# Altium footprint library XHCL.PcbLib: 31 footprints (part 1 of 2)
Each footprint in its own frame and in the unit in brackets; x right, y up, seen from the top. Pads: shape width x height; smd on the part's side, far side on the other; paste and mask are expansions set on the pad; w line width, h text height; cw(c..) or ccw(c..) is an arc to the next point about the centre after c.
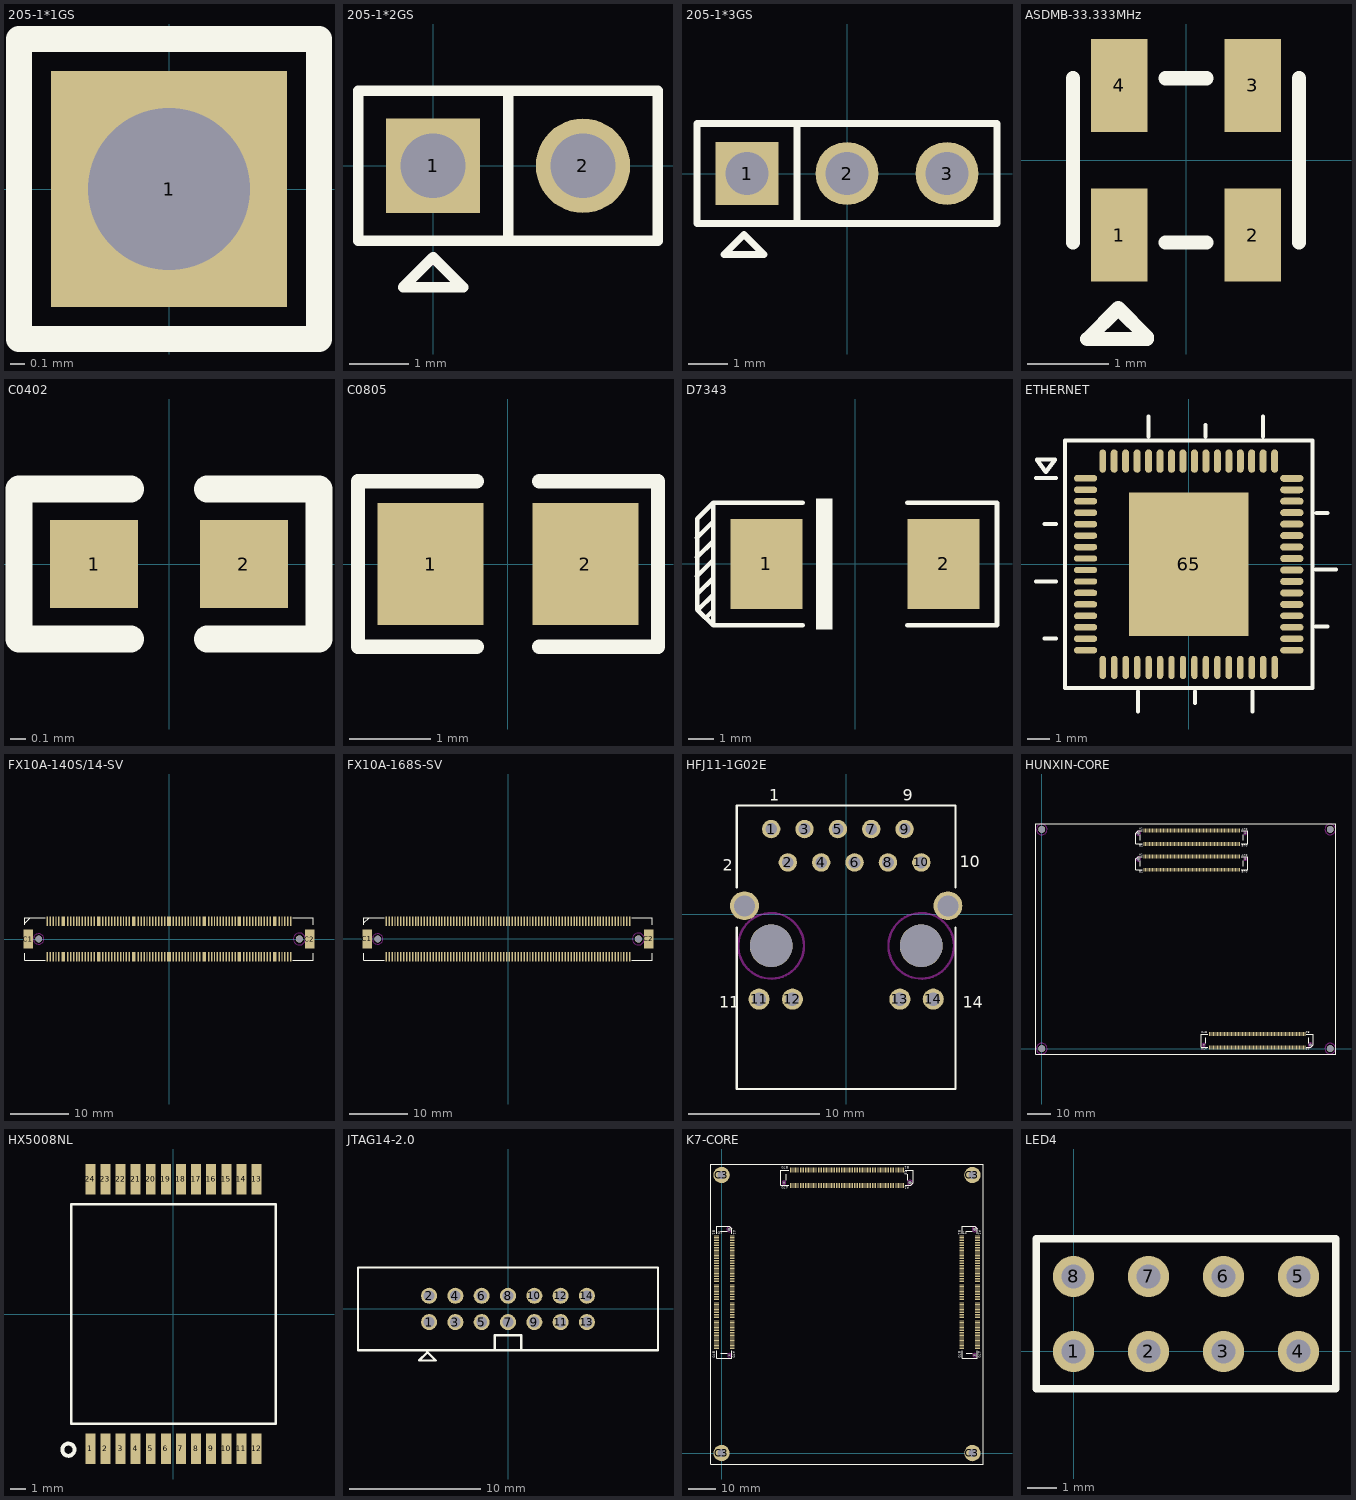
[diagram p0: the footprints below, top view; thin cyan lines are the x and y axes]

## 205-1*1GS [mm]
height 6
pads (1):
  rect 1.6x1.6 hole 1.1: 1(0,0)
Top Overlay:
  lines w0.178: -1.016,-1.016 1.016,-1.016 1.016,1.016 -1.016,1.016 -1.016,-1.016

## 205-1*2GS [mm]
height 6
pads (2):
  rect 1.6x1.6 hole 1.1: 1(0,0)
  round 1.6 hole 1.1: 2(2.54,0)
Top Overlay:
  lines w0.178: 1.27,-1.27 1.27,1.27 ; -1.27,-1.27 3.81,-1.27 3.81,1.27 -1.27,1.27 -1.27,-1.27 ; -0.508,-2.057 0,-1.549 0.508,-2.057 -0.508,-2.057

## 205-1*3GS [mm]
height 6
pads (3):
  rect 1.6x1.6 hole 1.1: 1(-2.54,0)
  round 1.6 hole 1.1: 2(0,0) 3(2.54,0)
Top Overlay:
  lines w0.178: -1.27,-1.27 -1.27,1.27 ; -3.81,-1.27 3.81,-1.27 3.81,1.27 -3.81,1.27 -3.81,-1.27 ; -3.124,-2.057 -2.616,-1.549 -2.108,-2.057 -3.124,-2.057

## ASDMB-33.333MHz [mm]
height 1.1
pads (4):
  rect 0.7x1.15 smd: 1(-0.825,-0.925) 2(0.825,-0.925) 3(0.825,0.925) 4(-0.825,0.925)
Top Overlay:
  lines w0.178: -1.397,-1.016 -1.397,1.016 ; -0.254,-1.016 0.254,-1.016 ; -0.254,1.016 0.254,1.016 ; 1.397,-1.016 1.397,1.016 ; -1.219,-2.21 -0.483,-2.21 -0.483,-2.184 -0.838,-1.829 -1.219,-2.21

## C0402 [mil]
pads (2):
  rect 23x23 smd: 1(-19.68,0) 2(19.68,0)
Top Overlay:
  lines w7: -10,-19.68 -39.37,-19.68 -39.37,19.68 -10,19.68 ; 10,-19.68 39.37,-19.68 39.37,19.68 10,19.68

## C0805 [mm]
height 6
pads (2):
  rect 1.3x1.5 smd: 1(-0.95,0) 2(0.95,0)
Top Overlay:
  lines w0.178: -0.381,-1.019 -1.841,-1.019 -1.841,1.019 -0.381,1.019 ; 0.381,-1.019 1.842,-1.019 1.842,1.019 0.381,1.019

## D7343 [mm]
height 1.1
pads (2):
  rect 2.8x3.5 smd: 1(-3.45,0) 2(3.45,0)
Top Overlay:
  rectangle: -1.522,-2.542 -0.887,2.538
  lines w0.178: -6.151,-0.474 -5.524,0.152 ; -6.151,0.263 -5.524,0.889 ; -6.151,1.025 -5.524,1.651 ; -6.092,-1.761 -5.524,-1.194 ; -6.092,-1.126 -5.524,-0.559 ; -5.817,-2.108 -5.524,-1.829 ; -2.032,-2.388 -5.524,-2.388 ; -2.032,2.388 -5.524,2.388 ; 2.032,-2.388 5.524,-2.388 5.524,2.388 2.032,2.388 ; -5.524,-2.388 -6.147,-1.778 -6.147,1.753 -5.524,2.388 ; -5.524,-2.388 -5.524,2.388

## ETHERNET [mm]
height 1.1
pads (65):
  oval 1.016x0.279 smd mask+0.051: 1(-4.5,3.75) 2(-4.5,3.25) 3(-4.5,2.75) 4(-4.5,2.25) 5(-4.5,1.75) 6(-4.5,1.25) 7(-4.5,0.75) 8(-4.5,0.25) 9(-4.5,-0.25) 10(-4.5,-0.75) 11(-4.5,-1.25) 12(-4.5,-1.75) 13(-4.5,-2.25) 14(-4.5,-2.75) 15(-4.5,-3.25) 16(-4.5,-3.75) 33(4.5,-3.75) 34(4.5,-3.25) 35(4.5,-2.75) 36(4.5,-2.25)
  oval 0.279x1.016 smd mask+0.051: 17(-3.75,-4.5) 18(-3.25,-4.5) 19(-2.75,-4.5) 20(-2.25,-4.5) 21(-1.75,-4.5) 22(-1.25,-4.5) 23(-0.75,-4.5) 24(-0.25,-4.5) 25(0.25,-4.5) 26(0.75,-4.5) 27(1.25,-4.5) 28(1.75,-4.5) 29(2.25,-4.5) 30(2.75,-4.5) 31(3.25,-4.5) 32(3.75,-4.5) 64(-3.75,4.5)
  oval 1.016x0.305 smd mask+0.051: 37(4.5,-1.75) 38(4.5,-1.25) 39(4.5,-0.75) 40(4.5,-0.25) 41(4.5,0.25) 42(4.5,0.75) 43(4.5,1.25) 44(4.5,1.75) 45(4.5,2.25) 46(4.5,2.75) 47(4.5,3.25) 48(4.5,3.75)
  oval 0.305x1.016 smd mask+0.051: 49(3.75,4.5) 50(3.25,4.5) 51(2.75,4.5) 52(2.25,4.5) 53(1.75,4.5) 54(1.25,4.5) 55(0.75,4.5) 56(0.25,4.5) 57(-0.25,4.5) 58(-0.75,4.5) 59(-1.25,4.5) 60(-1.75,4.5) 61(-2.25,4.5) 62(-2.75,4.5) 63(-3.25,4.5)
  rect 5.21x6.25 smd: 65(0,0)
Top Overlay:
  lines w0.178: -6.662,-0.743 -5.798,-0.743 ; -6.662,3.757 -5.798,3.757 ; -6.292,-3.243 -5.798,-3.243 ; -6.292,1.757 -5.798,1.757 ; -2.217,-6.414 -2.217,-5.551 ; -1.76,5.575 -1.76,6.438 ; 0.283,-6.044 0.283,-5.551 ; 0.74,5.575 0.74,6.068 ; 2.783,-6.414 2.783,-5.551 ; 3.24,5.575 3.24,6.438 ; 5.563,-2.718 6.056,-2.718 ; 5.563,-0.229 6.426,-0.229 ; 5.566,2.243 6.06,2.243 ; -6.625,4.571 -6.233,4.025 -5.825,4.571 -6.625,4.571 ; -5.4,-5.4 5.4,-5.4 5.4,5.4 -5.4,5.4 -5.4,-5.4

## FX10A-140S/14-SV [mm] "FX10A-140S_14-SV"
pads (158):
  rect 0.25x1.6 smd mask+0.051: A1(-20.75,-3.05) A2(-20.25,-3.05) A3(-19.75,-3.05) A4(-19.25,-3.05) A5(-18.75,-3.05) A7(-17.25,-3.05) A8(-16.75,-3.05) A9(-16.25,-3.05) A10(-15.75,-3.05) A11(-15.25,-3.05) A12(-14.75,-3.05) A13(-14.25,-3.05) A14(-13.75,-3.05) A15(-13.25,-3.05) A16(-12.75,-3.05) A18(-11.25,-3.05) A19(-10.75,-3.05) A20(-10.25,-3.05) A21(-9.75,-3.05) A22(-9.25,-3.05) A23(-8.75,-3.05) A24(-8.25,-3.05) A25(-7.75,-3.05) A26(-7.25,-3.05) A27(-6.75,-3.05) A29(-5.25,-3.05) A30(-4.75,-3.05) A31(-4.25,-3.05) A32(-3.75,-3.05) A33(-3.25,-3.05) A34(-2.75,-3.05) A35(-2.25,-3.05) A36(-1.75,-3.05) A37(-1.25,-3.05) A38(-0.75,-3.05) A40(0.75,-3.05) A41(1.25,-3.05) A42(1.75,-3.05) A43(2.25,-3.05) A44(2.75,-3.05) A45(3.25,-3.05) A46(3.75,-3.05) A47(4.25,-3.05) A48(4.75,-3.05) A49(5.25,-3.05) A51(6.75,-3.05) A52(7.25,-3.05) A53(7.75,-3.05) A54(8.25,-3.05) A55(8.75,-3.05) A56(9.25,-3.05) A57(9.75,-3.05) A58(10.25,-3.05) A59(10.75,-3.05) A60(11.25,-3.05) A62(12.75,-3.05) A63(13.25,-3.05) A64(13.75,-3.05) A65(14.25,-3.05) A66(14.75,-3.05) A67(15.25,-3.05) A68(15.75,-3.05) A69(16.25,-3.05) A70(16.75,-3.05) A71(17.25,-3.05) A73(18.75,-3.05) A74(19.25,-3.05) A75(19.75,-3.05) A76(20.25,-3.05) A77(20.75,-3.05) B1(-20.75,3.05) B2(-20.25,3.05) B3(-19.75,3.05) B4(-19.25,3.05) B5(-18.75,3.05) B7(-17.25,3.05) B8(-16.75,3.05) B9(-16.25,3.05) B10(-15.75,3.05) B11(-15.25,3.05) B12(-14.75,3.05) B13(-14.25,3.05) B14(-13.75,3.05) B15(-13.25,3.05) B16(-12.75,3.05) B18(-11.25,3.05) B19(-10.75,3.05) B20(-10.25,3.05) B21(-9.75,3.05) B22(-9.25,3.05) B23(-8.75,3.05) B24(-8.25,3.05) B25(-7.75,3.05) B26(-7.25,3.05) B27(-6.75,3.05) B29(-5.25,3.05) B30(-4.75,3.05) B31(-4.25,3.05) B32(-3.75,3.05) B33(-3.25,3.05) B34(-2.75,3.05) B35(-2.25,3.05) B36(-1.75,3.05) B37(-1.25,3.05) B38(-0.75,3.05) B40(0.75,3.05) B41(1.25,3.05) B42(1.75,3.05) B43(2.25,3.05) B44(2.75,3.05) B45(3.25,3.05) B46(3.75,3.05) B47(4.25,3.05) B48(4.75,3.05) B49(5.25,3.05) B51(6.75,3.05) B52(7.25,3.05) B53(7.75,3.05) B54(8.25,3.05) B55(8.75,3.05) B56(9.25,3.05) B57(9.75,3.05) B58(10.25,3.05) B59(10.75,3.05) B60(11.25,3.05) B62(12.75,3.05) B63(13.25,3.05) B64(13.75,3.05) B65(14.25,3.05) B66(14.75,3.05) B67(15.25,3.05) B68(15.75,3.05) B69(16.25,3.05) B70(16.75,3.05) B71(17.25,3.05) B73(18.75,3.05) B74(19.25,3.05) B75(19.75,3.05) B76(20.25,3.05) B77(20.75,3.05)
  rect 0.6x1.6 smd: A6(-18,-3.05) A17(-12,-3.05) A28(-6,-3.05) A39(0,-3.05) A50(6,-3.05) A61(12,-3.05) A72(18,-3.05) B6(-18,3.05) B17(-12,3.05) B28(-6,3.05) B39(0,3.05) B50(6,3.05) B61(12,3.05) B72(18,3.05)
  rect 1.6x3.2 smd: C1(-23.95,0) C2(23.95,0)
  round 1.118 hole 1.118 unplated: ""(-22.2,0)
  round 1.219 hole 1.219 unplated: ""(22.2,0)
Top Overlay:
  lines w0.1: -24.55,-2.45 -24.55,-3.65 -21.05,-3.65 ; -24.55,2.45 -24.55,3.65 -21.05,3.65 ; 21.05,-3.65 24.55,-3.65 24.55,-2.45 ; 21.05,3.65 24.55,3.65 24.55,2.45
  lines w0.15: -24.486,2.794 -23.724,3.556
Keep-Out Layer:
  circle w0.178: c-22.2,0 r0.889
  circle w0.178: c22.2,0 r1.016

## FX10A-168S-SV [mm] "FX10A-168S-SV"
pads (172):
  rect 0.25x1.6 smd mask+0.051: A1(-20.75,-3.05) A2(-20.25,-3.05) A3(-19.75,-3.05) A4(-19.25,-3.05) A5(-18.75,-3.05) A6(-18.25,-3.05) A7(-17.75,-3.05) A8(-17.25,-3.05) A9(-16.75,-3.05) A10(-16.25,-3.05) A11(-15.75,-3.05) A12(-15.25,-3.05) A13(-14.75,-3.05) A14(-14.25,-3.05) A15(-13.75,-3.05) A16(-13.25,-3.05) A17(-12.75,-3.05) A18(-12.25,-3.05) A19(-11.75,-3.05) A20(-11.25,-3.05) A21(-10.75,-3.05) A22(-10.25,-3.05) A23(-9.75,-3.05) A24(-9.25,-3.05) A25(-8.75,-3.05) A26(-8.25,-3.05) A27(-7.75,-3.05) A28(-7.25,-3.05) A29(-6.75,-3.05) A30(-6.25,-3.05) A31(-5.75,-3.05) A32(-5.25,-3.05) A33(-4.75,-3.05) A34(-4.25,-3.05) A35(-3.75,-3.05) A36(-3.25,-3.05) A37(-2.75,-3.05) A38(-2.25,-3.05) A39(-1.75,-3.05) A40(-1.25,-3.05) A41(-0.75,-3.05) A42(-0.25,-3.05) A43(0.25,-3.05) A44(0.75,-3.05) A45(1.25,-3.05) A46(1.75,-3.05) A47(2.25,-3.05) A48(2.75,-3.05) A49(3.25,-3.05) A50(3.75,-3.05) A51(4.25,-3.05) A52(4.75,-3.05) A53(5.25,-3.05) A54(5.75,-3.05) A55(6.25,-3.05) A56(6.75,-3.05) A57(7.25,-3.05) A58(7.75,-3.05) A59(8.25,-3.05) A60(8.75,-3.05) A61(9.25,-3.05) A62(9.75,-3.05) A63(10.25,-3.05) A64(10.75,-3.05) A65(11.25,-3.05) A66(11.75,-3.05) A67(12.25,-3.05) A68(12.75,-3.05) A69(13.25,-3.05) A70(13.75,-3.05) A71(14.25,-3.05) A72(14.75,-3.05) A73(15.25,-3.05) A74(15.75,-3.05) A75(16.25,-3.05) A76(16.75,-3.05) A77(17.25,-3.05) A78(17.75,-3.05) A79(18.25,-3.05) A80(18.75,-3.05) A81(19.25,-3.05) A82(19.75,-3.05) A83(20.25,-3.05) A84(20.75,-3.05) B1(-20.75,3.05) B2(-20.25,3.05) B3(-19.75,3.05) B4(-19.25,3.05) B5(-18.75,3.05) B6(-18.25,3.05) B7(-17.75,3.05) B8(-17.25,3.05) B9(-16.75,3.05) B10(-16.25,3.05) B11(-15.75,3.05) B12(-15.25,3.05) B13(-14.75,3.05) B14(-14.25,3.05) B15(-13.75,3.05) B16(-13.25,3.05) B17(-12.75,3.05) B18(-12.25,3.05) B19(-11.75,3.05) B20(-11.25,3.05) B21(-10.75,3.05) B22(-10.25,3.05) B23(-9.75,3.05) B24(-9.25,3.05) B25(-8.75,3.05) B26(-8.25,3.05) B27(-7.75,3.05) B28(-7.25,3.05) B29(-6.75,3.05) B30(-6.25,3.05) B31(-5.75,3.05) B32(-5.25,3.05) B33(-4.75,3.05) B34(-4.25,3.05) B35(-3.75,3.05) B36(-3.25,3.05) B37(-2.75,3.05) B38(-2.25,3.05) B39(-1.75,3.05) B40(-1.25,3.05) B41(-0.75,3.05) B42(-0.25,3.05) B43(0.25,3.05) B44(0.75,3.05) B45(1.25,3.05) B46(1.75,3.05) B47(2.25,3.05) B48(2.75,3.05) B49(3.25,3.05) B50(3.75,3.05) B51(4.25,3.05) B52(4.75,3.05) B53(5.25,3.05) B54(5.75,3.05) B55(6.25,3.05) B56(6.75,3.05) B57(7.25,3.05) B58(7.75,3.05) B59(8.25,3.05) B60(8.75,3.05) B61(9.25,3.05) B62(9.75,3.05) B63(10.25,3.05) B64(10.75,3.05) B65(11.25,3.05) B66(11.75,3.05) B67(12.25,3.05) B68(12.75,3.05) B69(13.25,3.05) B70(13.75,3.05) B71(14.25,3.05) B72(14.75,3.05) B73(15.25,3.05) B74(15.75,3.05) B75(16.25,3.05) B76(16.75,3.05) B77(17.25,3.05) B78(17.75,3.05) B79(18.25,3.05) B80(18.75,3.05) B81(19.25,3.05) B82(19.75,3.05) B83(20.25,3.05) B84(20.75,3.05)
  rect 1.6x3.2 smd: C1(-23.95,0) C2(23.95,0)
  round 1.118 hole 1.118 unplated: ""(-22.2,0)
  round 1.219 hole 1.219 unplated: ""(22.2,0)
Top Overlay:
  lines w0.1: -24.55,-2.45 -24.55,-3.65 -21.05,-3.65 ; -24.55,2.45 -24.55,3.65 -21.05,3.65 ; -24.55,2.75 -23.65,3.65 ; 21.05,-3.65 24.55,-3.65 24.55,-2.45 ; 21.05,3.65 24.55,3.65 24.55,2.45
Keep-Out Layer:
  circle w0.178: c-22.2,0 r0.889
  circle w0.178: c22.2,0 r1.016

## HFJ11-1G02E [mm]
height 6
pads (18):
  round 1.4 hole 0.89: 1(-5.71,6.475) 2(-4.44,3.935) 3(-3.17,6.475) 4(-1.9,3.935) 5(-0.63,6.475) 6(0.64,3.935) 7(1.91,6.475) 8(3.18,3.935) 9(4.45,6.475) 10(5.72,3.935)
  round 1.6 hole 1.02: 11(-6.63,-6.475) 12(-4.09,-6.475) 13(4.09,-6.475) 14(6.63,-6.475)
  round 2.2 hole 1.6: ""(-7.745,0.635) ""(7.745,0.635)
  round 3.25 hole 3.25 unplated: ""(-5.715,-2.415) ""(5.715,-2.415)
Top Overlay:
  lines w0.178: -8.33,-1.016 -8.33,-13.315 8.33,-13.315 8.33,-1.016 ; -8.33,2.032 -8.33,8.275 8.33,8.275 8.33,2.032
  text "1" at -5.842,8.636 h0.89
  text "9" at 4.318,8.636 h0.89
  text "10" at 8.636,3.556 h0.89
  text "2" at -9.398,3.302 h0.89
  text "14" at 8.89,-7.112 h0.89
  text "11" at -9.652,-7.112 h0.89
Keep-Out Layer:
  circle w0.178: c5.715,-2.415 r2.5
  circle w0.178: c-5.715,-2.415 r2.5

## HUNXIN-CORE [mm] "TT202101191536"
height 6
pads (430):
  rect 0.35x1.7 smd mask+0.051: A1_1(114.01,0.55) A1_2(113.41,0.55) A1_3(112.81,0.55) A1_4(112.21,0.55) A1_5(111.61,0.55) A1_6(111.01,0.55) A1_7(110.41,0.55) A1_8(109.81,0.55) A1_9(109.21,0.55) A1_10(108.61,0.55) A1_11(108.01,0.55) A1_12(107.41,0.55) A1_13(106.81,0.55) A1_14(106.21,0.55) A1_15(105.61,0.55) A1_16(105.01,0.55) A1_17(104.41,0.55) A1_18(103.81,0.55) A1_19(103.21,0.55) A1_20(102.61,0.55) A1_21(102.01,0.55) A1_22(101.41,0.55) A1_23(100.81,0.55) A1_24(100.21,0.55) A1_25(99.61,0.55) A1_26(99.01,0.55) A1_27(98.41,0.55) A1_28(97.81,0.55) A1_29(97.21,0.55) A1_30(96.61,0.55) A1_31(96.01,0.55) A1_32(95.41,0.55) A1_33(94.81,0.55) A1_34(94.21,0.55) A1_35(93.61,0.55) A1_36(93.01,0.55) A1_37(92.41,0.55) A1_38(91.81,0.55) A1_39(91.21,0.55) A1_40(90.61,0.55) A1_41(90.01,0.55) A1_42(89.41,0.55) A1_43(88.81,0.55) A1_44(88.21,0.55) A1_45(87.61,0.55) A1_46(87.01,0.55) A1_47(86.41,0.55) A1_48(85.81,0.55) A1_49(85.21,0.55) A1_50(84.61,0.55) A1_51(84.01,0.55) A1_52(83.41,0.55) A1_53(82.81,0.55) A1_54(82.21,0.55) A1_55(81.61,0.55) A1_56(81.01,0.55) A1_57(80.41,0.55) A1_58(79.81,0.55) A1_59(79.21,0.55) A1_60(78.61,0.55) A1_61(78.01,0.55) A1_62(77.41,0.55) A1_63(76.81,0.55) A1_64(76.21,0.55) A1_65(75.61,0.55) A1_66(75.01,0.55) A1_67(74.41,0.55) A1_68(73.81,0.55) A1_69(73.21,0.55) A1_70(72.61,0.55) A2_1(44.306,83.221) A2_2(44.906,83.221) A2_3(45.506,83.221) A2_4(46.106,83.221) A2_5(46.706,83.221) A2_6(47.306,83.221) A2_7(47.906,83.221) A2_8(48.506,83.221) A2_9(49.106,83.221) A2_10(49.706,83.221) A2_11(50.306,83.221) A2_12(50.906,83.221) A2_13(51.506,83.221) A2_14(52.106,83.221) A2_15(52.706,83.221) A2_16(53.306,83.221) A2_17(53.906,83.221) A2_18(54.506,83.221) A2_19(55.106,83.221) A2_20(55.706,83.221) A2_21(56.306,83.221) A2_22(56.906,83.221) A2_23(57.506,83.221) A2_24(58.106,83.221) A2_25(58.706,83.221) A2_26(59.306,83.221) A2_27(59.906,83.221) A2_28(60.506,83.221) A2_29(61.106,83.221) A2_30(61.706,83.221) A2_31(62.306,83.221) A2_32(62.906,83.221) A2_33(63.506,83.221) A2_34(64.106,83.221) A2_35(64.706,83.221) A2_36(65.306,83.221) A2_37(65.906,83.221) A2_38(66.506,83.221) A2_39(67.106,83.221) A2_40(67.706,83.221) A2_41(68.306,83.221) A2_42(68.906,83.221) A2_43(69.506,83.221) A2_44(70.106,83.221) A2_45(70.706,83.221) A2_46(71.306,83.221) A2_47(71.906,83.221) A2_48(72.506,83.221) A2_49(73.106,83.221) A2_50(73.706,83.221) A2_51(74.306,83.221) A2_52(74.906,83.221) A2_53(75.506,83.221) A2_54(76.106,83.221) A2_55(76.706,83.221) A2_56(77.306,83.221) A2_57(77.906,83.221) A2_58(78.506,83.221) A2_59(79.106,83.221) A2_60(79.706,83.221) A2_61(80.306,83.221) A2_62(80.906,83.221) A2_63(81.506,83.221) A2_64(82.106,83.221) A2_65(82.706,83.221) A2_66(83.306,83.221) A2_67(83.906,83.221) A2_68(84.506,83.221) A2_69(85.106,83.221) A2_70(85.706,83.221) A3_1(44.306,94.45) A3_2(44.906,94.45) A3_3(45.506,94.45) A3_4(46.106,94.45) A3_5(46.706,94.45) A3_6(47.306,94.45) A3_7(47.906,94.45) A3_8(48.506,94.45) A3_9(49.106,94.45) A3_10(49.706,94.45) A3_11(50.306,94.45) A3_12(50.906,94.45) A3_13(51.506,94.45) A3_14(52.106,94.45) A3_15(52.706,94.45) A3_16(53.306,94.45) A3_17(53.906,94.45) A3_18(54.506,94.45) A3_19(55.106,94.45) A3_20(55.706,94.45) A3_21(56.306,94.45) A3_22(56.906,94.45) A3_23(57.506,94.45) A3_24(58.106,94.45) A3_25(58.706,94.45) A3_26(59.306,94.45) A3_27(59.906,94.45) A3_28(60.506,94.45) A3_29(61.106,94.45) A3_30(61.706,94.45) A3_31(62.306,94.45) A3_32(62.906,94.45) A3_33(63.506,94.45) A3_34(64.106,94.45) A3_35(64.706,94.45) A3_36(65.306,94.45) A3_37(65.906,94.45) A3_38(66.506,94.45) A3_39(67.106,94.45) A3_40(67.706,94.45) A3_41(68.306,94.45) A3_42(68.906,94.45) A3_43(69.506,94.45) A3_44(70.106,94.45) A3_45(70.706,94.45) A3_46(71.306,94.45) A3_47(71.906,94.45) A3_48(72.506,94.45) A3_49(73.106,94.45) A3_50(73.706,94.45) A3_51(74.306,94.45) A3_52(74.906,94.45) A3_53(75.506,94.45) A3_54(76.106,94.45) A3_55(76.706,94.45) A3_56(77.306,94.45) A3_57(77.906,94.45) A3_58(78.506,94.45) A3_59(79.106,94.45) A3_60(79.706,94.45) A3_61(80.306,94.45) A3_62(80.906,94.45) A3_63(81.506,94.45) A3_64(82.106,94.45) A3_65(82.706,94.45) A3_66(83.306,94.45) A3_67(83.906,94.45) A3_68(84.506,94.45) A3_69(85.106,94.45) A3_70(85.706,94.45) B1_1(114.01,6.25) B1_2(113.41,6.25) B1_3(112.81,6.25) B1_4(112.21,6.25) B1_5(111.61,6.25) B1_6(111.01,6.25) B1_7(110.41,6.25) B1_8(109.81,6.25) B1_9(109.21,6.25) B1_10(108.61,6.25) B1_11(108.01,6.25) B1_12(107.41,6.25) B1_13(106.81,6.25) B1_14(106.21,6.25) B1_15(105.61,6.25) B1_16(105.01,6.25) B1_17(104.41,6.25) B1_18(103.81,6.25) B1_19(103.21,6.25) B1_20(102.61,6.25) B1_21(102.01,6.25) B1_22(101.41,6.25) B1_23(100.81,6.25) B1_24(100.21,6.25) B1_25(99.61,6.25) B1_26(99.01,6.25) B1_27(98.41,6.25) B1_28(97.81,6.25) B1_29(97.21,6.25) B1_30(96.61,6.25) B1_31(96.01,6.25) B1_32(95.41,6.25) B1_33(94.81,6.25) B1_34(94.21,6.25) B1_35(93.61,6.25) B1_36(93.01,6.25) B1_37(92.41,6.25) B1_38(91.81,6.25) B1_39(91.21,6.25) B1_40(90.61,6.25) B1_41(90.01,6.25) B1_42(89.41,6.25) B1_43(88.81,6.25) B1_44(88.21,6.25) B1_45(87.61,6.25) B1_46(87.01,6.25) B1_47(86.41,6.25) B1_48(85.81,6.25) B1_49(85.21,6.25) B1_50(84.61,6.25) B1_51(84.01,6.25) B1_52(83.41,6.25) B1_53(82.81,6.25) B1_54(82.21,6.25) B1_55(81.61,6.25) B1_56(81.01,6.25) B1_57(80.41,6.25) B1_58(79.81,6.25) B1_59(79.21,6.25) B1_60(78.61,6.25) B1_61(78.01,6.25) B1_62(77.41,6.25) B1_63(76.81,6.25) B1_64(76.21,6.25) B1_65(75.61,6.25) B1_66(75.01,6.25) B1_67(74.41,6.25) B1_68(73.81,6.25) B1_69(73.21,6.25) B1_70(72.61,6.25) B2_1(44.306,77.521) B2_2(44.906,77.521) B2_3(45.506,77.521) B2_4(46.106,77.521) B2_5(46.706,77.521) B2_6(47.306,77.521) B2_7(47.906,77.521) B2_8(48.506,77.521) B2_9(49.106,77.521) B2_10(49.706,77.521) B2_11(50.306,77.521) B2_12(50.906,77.521) B2_13(51.506,77.521) B2_14(52.106,77.521) B2_15(52.706,77.521) B2_16(53.306,77.521) B2_17(53.906,77.521) B2_18(54.506,77.521) B2_19(55.106,77.521) B2_20(55.706,77.521) B2_21(56.306,77.521) B2_22(56.906,77.521) B2_23(57.506,77.521) B2_24(58.106,77.521) B2_25(58.706,77.521) B2_26(59.306,77.521) B2_27(59.906,77.521) B2_28(60.506,77.521) B2_29(61.106,77.521) B2_30(61.706,77.521) B2_31(62.306,77.521) B2_32(62.906,77.521) B2_33(63.506,77.521) B2_34(64.106,77.521) B2_35(64.706,77.521) B2_36(65.306,77.521) B2_37(65.906,77.521) B2_38(66.506,77.521) B2_39(67.106,77.521) B2_40(67.706,77.521) B2_41(68.306,77.521) B2_42(68.906,77.521) B2_43(69.506,77.521) B2_44(70.106,77.521) B2_45(70.706,77.521) B2_46(71.306,77.521) B2_47(71.906,77.521) B2_48(72.506,77.521) B2_49(73.106,77.521) B2_50(73.706,77.521) B2_51(74.306,77.521) B2_52(74.906,77.521) B2_53(75.506,77.521) B2_54(76.106,77.521) B2_55(76.706,77.521) B2_56(77.306,77.521) B2_57(77.906,77.521) B2_58(78.506,77.521) B2_59(79.106,77.521) B2_60(79.706,77.521) B2_61(80.306,77.521) B2_62(80.906,77.521) B2_63(81.506,77.521) B2_64(82.106,77.521) B2_65(82.706,77.521) B2_66(83.306,77.521) B2_67(83.906,77.521) B2_68(84.506,77.521) B2_69(85.106,77.521) B2_70(85.706,77.521) B3_1(44.306,88.75) B3_2(44.906,88.75) B3_3(45.506,88.75) B3_4(46.106,88.75) B3_5(46.706,88.75) B3_6(47.306,88.75) B3_7(47.906,88.75) B3_8(48.506,88.75) B3_9(49.106,88.75) B3_10(49.706,88.75) B3_11(50.306,88.75) B3_12(50.906,88.75) B3_13(51.506,88.75) B3_14(52.106,88.75) B3_15(52.706,88.75) B3_16(53.306,88.75) B3_17(53.906,88.75) B3_18(54.506,88.75) B3_19(55.106,88.75) B3_20(55.706,88.75) B3_21(56.306,88.75) B3_22(56.906,88.75) B3_23(57.506,88.75) B3_24(58.106,88.75) B3_25(58.706,88.75) B3_26(59.306,88.75) B3_27(59.906,88.75) B3_28(60.506,88.75) B3_29(61.106,88.75) B3_30(61.706,88.75) B3_31(62.306,88.75) B3_32(62.906,88.75) B3_33(63.506,88.75) B3_34(64.106,88.75) B3_35(64.706,88.75) B3_36(65.306,88.75) B3_37(65.906,88.75) B3_38(66.506,88.75) B3_39(67.106,88.75) B3_40(67.706,88.75) B3_41(68.306,88.75) B3_42(68.906,88.75) B3_43(69.506,88.75) B3_44(70.106,88.75) B3_45(70.706,88.75) B3_46(71.306,88.75) B3_47(71.906,88.75) B3_48(72.506,88.75) B3_49(73.106,88.75) B3_50(73.706,88.75) B3_51(74.306,88.75) B3_52(74.906,88.75) B3_53(75.506,88.75) B3_54(76.106,88.75) B3_55(76.706,88.75) B3_56(77.306,88.75) B3_57(77.906,88.75) B3_58(78.506,88.75) B3_59(79.106,88.75) B3_60(79.706,88.75) B3_61(80.306,88.75) B3_62(80.906,88.75) B3_63(81.506,88.75) B3_64(82.106,88.75) B3_65(82.706,88.75) B3_66(83.306,88.75) B3_67(83.906,88.75) B3_68(84.506,88.75) B3_69(85.106,88.75) B3_70(85.706,88.75)
  round 1.1 hole 1.1 unplated: C1(41.906,82.171) C1(41.906,93.4) C1(116.41,1.6)
  round 0.7 hole 0.7 unplated: C2(70.21,1.6) C2(88.106,82.171) C2(88.106,93.4)
  round 3 hole 3 unplated: C3(0,0) C3(0,95) C3(125,0) C3(125,95)
Top Overlay:
  lines w0.178: 42.656,79.071 42.656,81.371 ; 42.656,90.3 42.656,92.6 ; 43.606,77.571 40.706,77.571 40.706,82.171 41.706,83.171 43.606,83.171 ; 43.606,88.8 40.706,88.8 40.706,93.4 41.706,94.4 43.606,94.4 ; 70.96,2.4 70.96,4.7 ; 71.91,0.6 69.01,0.6 69.01,6.2 71.91,6.2 ; 86.406,77.571 89.306,77.571 89.306,83.171 86.406,83.171 ; 86.406,88.8 89.306,88.8 89.306,94.4 86.406,94.4 ; 87.356,79.071 87.356,81.371 ; 87.356,90.3 87.356,92.6 ; 114.71,0.6 116.61,0.6 117.61,1.6 117.61,6.2 114.71,6.2 ; 115.66,2.4 115.66,4.7 ; -2.5,-2.5 -2.5,97.5 127.5,97.5 127.5,-2.5 -2.5,-2.5
  text "B1" at 116.081,7.558 h0.89
  text "B70" at 71.758,7.558 h0.89
  text "A70" at 71.758,0.327 h0.89
  text "A1" at 116.06,0.15 h0.89
  text "B1" at 42.235,76.213 h0.89
  text "B70" at 86.558,76.213 h0.89
  text "A70" at 86.558,83.444 h0.89
  text "A1" at 42.256,83.621 h0.89
  text "B1" at 42.235,87.442 h0.89
  text "B70" at 86.558,87.442 h0.89
  text "A70" at 86.558,94.673 h0.89
  text "A1" at 42.256,94.85 h0.89
Keep-Out Layer:
  circle w0.178: c41.906,93.4 r0.889
  circle w0.178: c88.106,93.4 r0.635
  circle w0.178: c41.906,82.171 r0.889
  circle w0.178: c88.106,82.171 r0.635
  circle w0.178: c70.21,1.6 r0.635
  circle w0.178: c116.41,1.6 r0.889
  circle w0.178: c125,0 r2.3
  circle w0.178: c0,0 r2.3
  circle w0.178: c0,95 r2.3
  circle w0.178: c125,95 r2.3

## HX5008NL [mm]
height 6
pads (24):
  rect 0.65x2 smd: 1(-5.445,-8.827) 2(-4.455,-8.827) 3(-3.465,-8.827) 4(-2.475,-8.827) 5(-1.485,-8.827) 6(-0.495,-8.827) 7(0.495,-8.827) 8(1.485,-8.827) 9(2.475,-8.827) 10(3.465,-8.827) 11(4.455,-8.827) 12(5.445,-8.827) 13(5.445,8.828) 14(4.455,8.828) 15(3.465,8.828) 16(2.475,8.828) 17(1.485,8.828) 18(0.495,8.828) 19(-0.495,8.828) 20(-1.485,8.828) 21(-2.475,8.828) 22(-3.465,8.828) 23(-4.455,8.828) 24(-5.445,8.828)
Top Overlay:
  circle w0.254: c-6.879,-8.89 r0.402
  lines w0.178: -6.7,-7.192 -6.7,7.192 6.7,7.192 6.7,-7.192 -6.7,-7.192

## JTAG14-2.0 [mil]
height 39.37
pads (14):
  round 48 hole 32: 1(-236.22,-39.37) 2(-236.22,39.37) 3(-157.48,-39.37) 4(-157.48,39.37) 5(-78.74,-39.37) 6(-78.74,39.37) 7(0,-39.37) 8(0,39.37) 9(78.74,-39.37) 10(78.74,39.37) 11(157.48,-39.37) 12(157.48,39.37) 13(236.22,-39.37) 14(236.22,39.37)
Top Overlay:
  lines w7: -39.37,-124.02 -39.37,-78.74 39.37,-78.74 39.37,-124.02 ; -448.82,-124.02 -448.82,124.02 448.82,124.02 448.82,-124.02 -448.82,-124.02 ; -266.22,-154.37 -216.22,-154.37 -241.22,-129.37 -266.22,-154.37

## K7-CORE [mm] "TT202101182204"
height 6
pads (430):
  rect 1.7x0.35 smd mask+0.051: A1_1(3.85,79.7) A1_2(3.85,79.1) A1_3(3.85,78.5) A1_4(3.85,77.9) A1_5(3.85,77.3) A1_6(3.85,76.7) A1_7(3.85,76.1) A1_8(3.85,75.5) A1_9(3.85,74.9) A1_10(3.85,74.3) A1_11(3.85,73.7) A1_12(3.85,73.1) A1_13(3.85,72.5) A1_14(3.85,71.9) A1_15(3.85,71.3) A1_16(3.85,70.7) A1_17(3.85,70.1) A1_18(3.85,69.5) A1_19(3.85,68.9) A1_20(3.85,68.3) A1_21(3.85,67.7) A1_22(3.85,67.1) A1_23(3.85,66.5) A1_24(3.85,65.9) A1_25(3.85,65.3) A1_26(3.85,64.7) A1_27(3.85,64.1) A1_28(3.85,63.5) A1_29(3.85,62.9) A1_30(3.85,62.3) A1_31(3.85,61.7) A1_32(3.85,61.1) A1_33(3.85,60.5) A1_34(3.85,59.9) A1_35(3.85,59.3) A1_36(3.85,58.7) A1_37(3.85,58.1) A1_38(3.85,57.5) A1_39(3.85,56.9) A1_40(3.85,56.3) A1_41(3.85,55.7) A1_42(3.85,55.1) A1_43(3.85,54.5) A1_44(3.85,53.9) A1_45(3.85,53.3) A1_46(3.85,52.7) A1_47(3.85,52.1) A1_48(3.85,51.5) A1_49(3.85,50.9) A1_50(3.85,50.3) A1_51(3.85,49.7) A1_52(3.85,49.1) A1_53(3.85,48.5) A1_54(3.85,47.9) A1_55(3.85,47.3) A1_56(3.85,46.7) A1_57(3.85,46.1) A1_58(3.85,45.5) A1_59(3.85,44.9) A1_60(3.85,44.3) A1_61(3.85,43.7) A1_62(3.85,43.1) A1_63(3.85,42.5) A1_64(3.85,41.9) A1_65(3.85,41.3) A1_66(3.85,40.7) A1_67(3.85,40.1) A1_68(3.85,39.5) A1_69(3.85,38.9) A1_70(3.85,38.3) A2_1(93.85,79.7) A2_2(93.85,79.1) A2_3(93.85,78.5) A2_4(93.85,77.9) A2_5(93.85,77.3) A2_6(93.85,76.7) A2_7(93.85,76.1) A2_8(93.85,75.5) A2_9(93.85,74.9) A2_10(93.85,74.3) A2_11(93.85,73.7) A2_12(93.85,73.1) A2_13(93.85,72.5) A2_14(93.85,71.9) A2_15(93.85,71.3) A2_16(93.85,70.7) A2_17(93.85,70.1) A2_18(93.85,69.5) A2_19(93.85,68.9) A2_20(93.85,68.3) A2_21(93.85,67.7) A2_22(93.85,67.1) A2_23(93.85,66.5) A2_24(93.85,65.9) A2_25(93.85,65.3) A2_26(93.85,64.7) A2_27(93.85,64.1) A2_28(93.85,63.5) A2_29(93.85,62.9) A2_30(93.85,62.3) A2_31(93.85,61.7) A2_32(93.85,61.1) A2_33(93.85,60.5) A2_34(93.85,59.9) A2_35(93.85,59.3) A2_36(93.85,58.7) A2_37(93.85,58.1) A2_38(93.85,57.5) A2_39(93.85,56.9) A2_40(93.85,56.3) A2_41(93.85,55.7) A2_42(93.85,55.1) A2_43(93.85,54.5) A2_44(93.85,53.9) A2_45(93.85,53.3) A2_46(93.85,52.7) A2_47(93.85,52.1) A2_48(93.85,51.5) A2_49(93.85,50.9) A2_50(93.85,50.3) A2_51(93.85,49.7) A2_52(93.85,49.1) A2_53(93.85,48.5) A2_54(93.85,47.9) A2_55(93.85,47.3) A2_56(93.85,46.7) A2_57(93.85,46.1) A2_58(93.85,45.5) A2_59(93.85,44.9) A2_60(93.85,44.3) A2_61(93.85,43.7) A2_62(93.85,43.1) A2_63(93.85,42.5) A2_64(93.85,41.9) A2_65(93.85,41.3) A2_66(93.85,40.7) A2_67(93.85,40.1) A2_68(93.85,39.5) A2_69(93.85,38.9) A2_70(93.85,38.3) B1_1(-1.85,79.7) B1_2(-1.85,79.1) B1_3(-1.85,78.5) B1_4(-1.85,77.9) B1_5(-1.85,77.3) B1_6(-1.85,76.7) B1_7(-1.85,76.1) B1_8(-1.85,75.5) B1_9(-1.85,74.9) B1_10(-1.85,74.3) B1_11(-1.85,73.7) B1_12(-1.85,73.1) B1_13(-1.85,72.5) B1_14(-1.85,71.9) B1_15(-1.85,71.3) B1_16(-1.85,70.7) B1_17(-1.85,70.1) B1_18(-1.85,69.5) B1_19(-1.85,68.9) B1_20(-1.85,68.3) B1_21(-1.85,67.7) B1_22(-1.85,67.1) B1_23(-1.85,66.5) B1_24(-1.85,65.9) B1_25(-1.85,65.3) B1_26(-1.85,64.7) B1_27(-1.85,64.1) B1_28(-1.85,63.5) B1_29(-1.85,62.9) B1_30(-1.85,62.3) B1_31(-1.85,61.7) B1_32(-1.85,61.1) B1_33(-1.85,60.5) B1_34(-1.85,59.9) B1_35(-1.85,59.3) B1_36(-1.85,58.7) B1_37(-1.85,58.1) B1_38(-1.85,57.5) B1_39(-1.85,56.9) B1_40(-1.85,56.3) B1_41(-1.85,55.7) B1_42(-1.85,55.1) B1_43(-1.85,54.5) B1_44(-1.85,53.9) B1_45(-1.85,53.3) B1_46(-1.85,52.7) B1_47(-1.85,52.1) B1_48(-1.85,51.5) B1_49(-1.85,50.9) B1_50(-1.85,50.3) B1_51(-1.85,49.7) B1_52(-1.85,49.1) B1_53(-1.85,48.5) B1_54(-1.85,47.9) B1_55(-1.85,47.3) B1_56(-1.85,46.7) B1_57(-1.85,46.1) B1_58(-1.85,45.5) B1_59(-1.85,44.9) B1_60(-1.85,44.3) B1_61(-1.85,43.7) B1_62(-1.85,43.1) B1_63(-1.85,42.5) B1_64(-1.85,41.9) B1_65(-1.85,41.3) B1_66(-1.85,40.7) B1_67(-1.85,40.1) B1_68(-1.85,39.5) B1_69(-1.85,38.9) B1_70(-1.85,38.3) B2_1(88.15,79.7) B2_2(88.15,79.1) B2_3(88.15,78.5) B2_4(88.15,77.9) B2_5(88.15,77.3) B2_6(88.15,76.7) B2_7(88.15,76.1) B2_8(88.15,75.5) B2_9(88.15,74.9) B2_10(88.15,74.3) B2_11(88.15,73.7) B2_12(88.15,73.1) B2_13(88.15,72.5) B2_14(88.15,71.9) B2_15(88.15,71.3) B2_16(88.15,70.7) B2_17(88.15,70.1) B2_18(88.15,69.5) B2_19(88.15,68.9) B2_20(88.15,68.3) B2_21(88.15,67.7) B2_22(88.15,67.1) B2_23(88.15,66.5) B2_24(88.15,65.9) B2_25(88.15,65.3) B2_26(88.15,64.7) B2_27(88.15,64.1) B2_28(88.15,63.5) B2_29(88.15,62.9) B2_30(88.15,62.3) B2_31(88.15,61.7) B2_32(88.15,61.1) B2_33(88.15,60.5) B2_34(88.15,59.9) B2_35(88.15,59.3) B2_36(88.15,58.7) B2_37(88.15,58.1) B2_38(88.15,57.5) B2_39(88.15,56.9) B2_40(88.15,56.3) B2_41(88.15,55.7) B2_42(88.15,55.1) B2_43(88.15,54.5) B2_44(88.15,53.9) B2_45(88.15,53.3) B2_46(88.15,52.7) B2_47(88.15,52.1) B2_48(88.15,51.5) B2_49(88.15,50.9) B2_50(88.15,50.3) B2_51(88.15,49.7) B2_52(88.15,49.1) B2_53(88.15,48.5) B2_54(88.15,47.9) B2_55(88.15,47.3) B2_56(88.15,46.7) B2_57(88.15,46.1) B2_58(88.15,45.5) B2_59(88.15,44.9) B2_60(88.15,44.3) B2_61(88.15,43.7) B2_62(88.15,43.1) B2_63(88.15,42.5) B2_64(88.15,41.9) B2_65(88.15,41.3) B2_66(88.15,40.7) B2_67(88.15,40.1) B2_68(88.15,39.5) B2_69(88.15,38.9) B2_70(88.15,38.3)
  rect 0.35x1.7 smd mask+0.051: A3_1(66.7,98.15) A3_2(66.1,98.15) A3_3(65.5,98.15) A3_4(64.9,98.15) A3_5(64.3,98.15) A3_6(63.7,98.15) A3_7(63.1,98.15) A3_8(62.5,98.15) A3_9(61.9,98.15) A3_10(61.3,98.15) A3_11(60.7,98.15) A3_12(60.1,98.15) A3_13(59.5,98.15) A3_14(58.9,98.15) A3_15(58.3,98.15) A3_16(57.7,98.15) A3_17(57.1,98.15) A3_18(56.5,98.15) A3_19(55.9,98.15) A3_20(55.3,98.15) A3_21(54.7,98.15) A3_22(54.1,98.15) A3_23(53.5,98.15) A3_24(52.9,98.15) A3_25(52.3,98.15) A3_26(51.7,98.15) A3_27(51.1,98.15) A3_28(50.5,98.15) A3_29(49.9,98.15) A3_30(49.3,98.15) A3_31(48.7,98.15) A3_32(48.1,98.15) A3_33(47.5,98.15) A3_34(46.9,98.15) A3_35(46.3,98.15) A3_36(45.7,98.15) A3_37(45.1,98.15) A3_38(44.5,98.15) A3_39(43.9,98.15) A3_40(43.3,98.15) A3_41(42.7,98.15) A3_42(42.1,98.15) A3_43(41.5,98.15) A3_44(40.9,98.15) A3_45(40.3,98.15) A3_46(39.7,98.15) A3_47(39.1,98.15) A3_48(38.5,98.15) A3_49(37.9,98.15) A3_50(37.3,98.15) A3_51(36.7,98.15) A3_52(36.1,98.15) A3_53(35.5,98.15) A3_54(34.9,98.15) A3_55(34.3,98.15) A3_56(33.7,98.15) A3_57(33.1,98.15) A3_58(32.5,98.15) A3_59(31.9,98.15) A3_60(31.3,98.15) A3_61(30.7,98.15) A3_62(30.1,98.15) A3_63(29.5,98.15) A3_64(28.9,98.15) A3_65(28.3,98.15) A3_66(27.7,98.15) A3_67(27.1,98.15) A3_68(26.5,98.15) A3_69(25.9,98.15) A3_70(25.3,98.15) B3_1(66.7,103.85) B3_2(66.1,103.85) B3_3(65.5,103.85) B3_4(64.9,103.85) B3_5(64.3,103.85) B3_6(63.7,103.85) B3_7(63.1,103.85) B3_8(62.5,103.85) B3_9(61.9,103.85) B3_10(61.3,103.85) B3_11(60.7,103.85) B3_12(60.1,103.85) B3_13(59.5,103.85) B3_14(58.9,103.85) B3_15(58.3,103.85) B3_16(57.7,103.85) B3_17(57.1,103.85) B3_18(56.5,103.85) B3_19(55.9,103.85) B3_20(55.3,103.85) B3_21(54.7,103.85) B3_22(54.1,103.85) B3_23(53.5,103.85) B3_24(52.9,103.85) B3_25(52.3,103.85) B3_26(51.7,103.85) B3_27(51.1,103.85) B3_28(50.5,103.85) B3_29(49.9,103.85) B3_30(49.3,103.85) B3_31(48.7,103.85) B3_32(48.1,103.85) B3_33(47.5,103.85) B3_34(46.9,103.85) B3_35(46.3,103.85) B3_36(45.7,103.85) B3_37(45.1,103.85) B3_38(44.5,103.85) B3_39(43.9,103.85) B3_40(43.3,103.85) B3_41(42.7,103.85) B3_42(42.1,103.85) B3_43(41.5,103.85) B3_44(40.9,103.85) B3_45(40.3,103.85) B3_46(39.7,103.85) B3_47(39.1,103.85) B3_48(38.5,103.85) B3_49(37.9,103.85) B3_50(37.3,103.85) B3_51(36.7,103.85) B3_52(36.1,103.85) B3_53(35.5,103.85) B3_54(34.9,103.85) B3_55(34.3,103.85) B3_56(33.7,103.85) B3_57(33.1,103.85) B3_58(32.5,103.85) B3_59(31.9,103.85) B3_60(31.3,103.85) B3_61(30.7,103.85) B3_62(30.1,103.85) B3_63(29.5,103.85) B3_64(28.9,103.85) B3_65(28.3,103.85) B3_66(27.7,103.85) B3_67(27.1,103.85) B3_68(26.5,103.85) B3_69(25.9,103.85) B3_70(25.3,103.85)
  round 1.1 hole 1.1 unplated: C1(2.8,82.1) C1(69.1,99.2) C1(92.8,82.1)
  round 0.7 hole 0.7 unplated: C2(2.8,35.9) C2(22.9,99.2) C2(92.8,35.9)
  round 6 hole 3: C3(0,0) C3(0,102) C3(92,0) C3(92,102)
Top Overlay:
  lines w0.178: -1.8,37.6 -1.8,34.7 3.8,34.7 3.8,37.6 ; -1.8,80.4 -1.8,83.3 2.8,83.3 3.8,82.3 3.8,80.4 ; -0.3,36.65 2,36.65 ; -0.3,81.35 2,81.35 ; 23.65,100 23.65,102.3 ; 24.6,98.2 21.7,98.2 21.7,103.8 24.6,103.8 ; 67.4,98.2 69.3,98.2 70.3,99.2 70.3,103.8 67.4,103.8 ; 68.35,100 68.35,102.3 ; 88.2,37.6 88.2,34.7 93.8,34.7 93.8,37.6 ; 88.2,80.4 88.2,83.3 92.8,83.3 93.8,82.3 93.8,80.4 ; 89.7,36.65 92,36.65 ; 89.7,81.35 92,81.35 ; -4,-4 96,-4 96,106 -4,106 -4,-4
  text "18" at 67.22,103.484 h0.89
  text "13" at 88.506,80.192 h0.89
  text "GT" at -1.436,80.217 h0.89
  text "B1" at 86.842,81.771 h0.89
  text "B70" at 86.842,37.448 h0.89
  text "A70" at 94.073,37.448 h0.89
  text "A1" at 94.25,81.75 h0.89
  text "B1" at 68.771,105.158 h0.89
  text "B70" at 24.448,105.158 h0.89
  text "A70" at 24.448,97.927 h0.89
  text "A1" at 68.75,97.75 h0.89
  text "B1" at -3.158,81.771 h0.89
  text "B70" at -3.158,37.448 h0.89
  text "A70" at 4.073,37.448 h0.89
  text "A1" at 4.25,81.75 h0.89
Keep-Out Layer:
  circle w0.178: c2.8,82.1 r0.889
  circle w0.178: c2.8,35.9 r0.635
  circle w0.178: c22.9,99.2 r0.635
  circle w0.178: c69.1,99.2 r0.889
  circle w0.178: c92.8,35.9 r0.635
  circle w0.178: c92.8,82.1 r0.889

## LED4 [mil]
height 236.22
pads (8):
  round 55 hole 32: 1(0,0) 2(100,0) 3(200,0) 4(300,0) 5(300,100) 6(200,100) 7(100,100) 8(0,100)
Top Overlay:
  lines w10: -50,-50 -50,150 350,150 350,-50 -50,-50